# Altium schematic symbol library SPI_FLASH.SchLib: 1 symbol
Pins are listed as number, name and electrical type; pins without a type are passive.

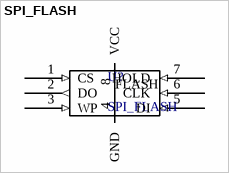
[diagram p0: symbol SPI_FLASH]

## SPI_FLASH
designator U?
SPI Flash symbol
pins: 1 CS (in), 2 DO (out), 3 WP (in), 4 GND (power), 5 DI (in), 6 CLK (in), 7 HOLD (in), 8 VCC (power)
text: FLASH